# Altium integrated library IR2214.IntLib: 1 symbol
Pins are listed as number, name and electrical type; pins without a type are passive.

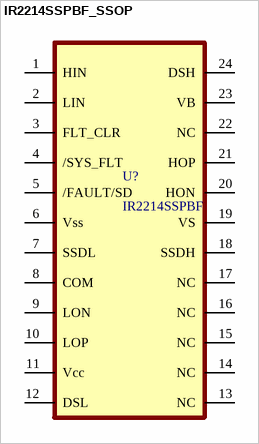
[diagram p0: symbol IR2214SSPBF_SSOP]

## IR2214SSPBF_SSOP
designator U?, comment IR2214SSPBF
Half Bridge Gate Driver IC Non Inverting 24 SSOP; MP: LM5575MH; MF: Texas Instruments; Price: None; SnapEDA_Link: https://www.snapeda.com/parts/LM5575MH/Texas%20Instruments/view-part/17765/?ref=snap; Availability: Warning; Value: *; DigiKey-Purchase-URL: https://snapeda.com/shop?store=DigiKey&id=17765; Package: HTSSOP-16 Texas Instruments
pins: 1 HIN, 2 LIN, 3 FLT_CLR, 4 /SYS_FLT, 5 /FAULT/SD, 6 Vss, 7 SSDL, 8 COM, 9 LON (power), 10 LOP (power), 11 Vcc (power), 12 DSL (power), 13 NC (power), 14 NC (power), 15 NC (power), 16 NC (power), 17 NC (power), 18 SSDH, 19 VS (power), 20 HON, 21 HOP, 22 NC, 23 VB, 24 DSH (power)